# Altium footprint library footprintsGPSrev2.PcbLib: 5 footprints
Each footprint in its own frame and in the unit in brackets; x right, y up, seen from the top. Pads: shape width x height; smd on the part's side, far side on the other; paste and mask are expansions set on the pad; w line width, h text height; cw(c..) or ccw(c..) is an arc to the next point about the centre after c.
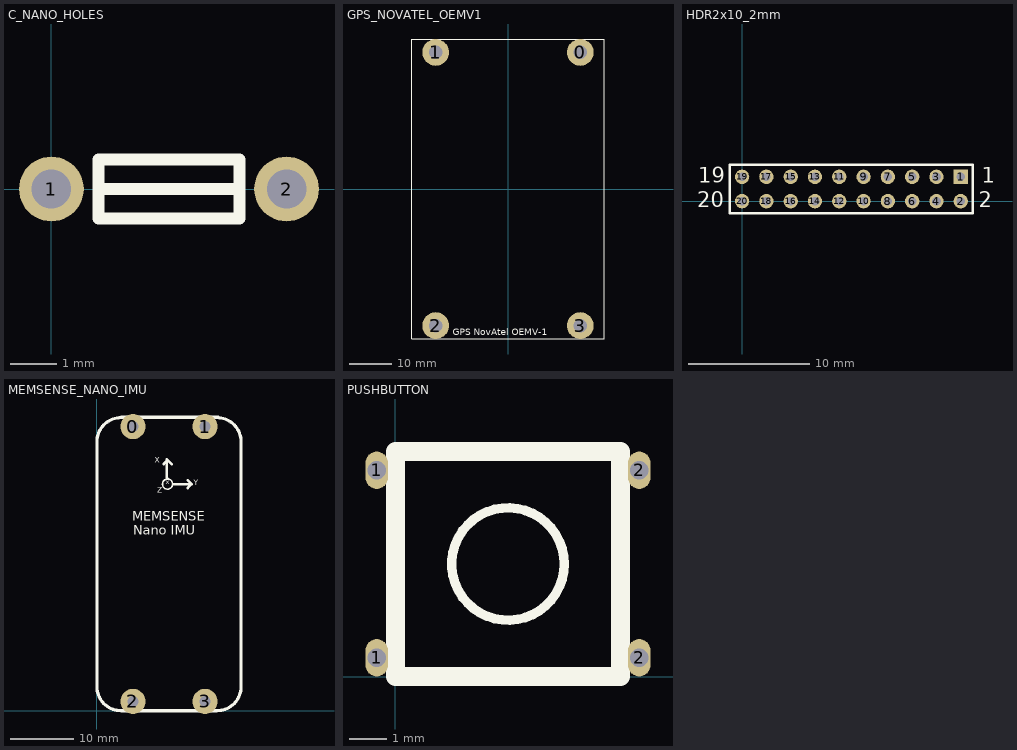
[diagram p0: the footprints below, top view; thin cyan lines are the x and y axes]

## C_NANO_HOLES [mm] "C_NANO com furos maiores"
pads (2):
  round 1.4 hole 0.85: 1(0,0) 2(5.08,0)
Top Overlay:
  lines w0.254: 1.016,0 3.302,0 ; 1.778,0 4.064,0 ; 4.064,0 4.064,0.635 1.016,0.635 1.016,-0.635 4.064,-0.635 4.064,0

## GPS_NOVATEL_OEMV1 [mm]
pads (4):
  round 6.35 hole 3.175: 0(17.145,32.385) 1(-17.145,32.385) 2(-17.145,-32.385) 3(17.145,-32.385)
Top Overlay:
  lines w0.254: -22.86,-35.56 22.86,-35.56 22.86,35.56 -22.86,35.56 -22.86,-35.56
  text "GPS NovAtel OEMV-1" at -13.081,-34.671 h1.52

## HDR2x10_2mm [mm]
pads (20):
  rect 1.18x1.18 hole 0.71: 1(18,2)
  round 1.18 hole 0.71: 2(18,0) 3(16,2) 4(16,0) 5(14,2) 6(14,0) 7(12,2) 8(12,0) 9(10,2) 10(10,0) 11(8,2) 12(8,0) 13(6,2) 14(6,0) 15(4,2) 16(4,0) 17(2,2) 18(2,0) 19(0,2) 20(0,0)
Top Overlay:
  lines w0.2: -1,-1 16.555,-1 19,-1 19,3 17.095,3 -1,3 -1,-1
  text "2" at 19.5,-0.5 h1.27
  text "1" at 19.712,1.5 h1.27
  text "19" at -3.606,1.5 h1.27
  text "20" at -3.712,-0.5 h1.27

## MEMSENSE_NANO_IMU [mm]
pads (4):
  round 4 hole 1.778: 0(5.715,45.06) 1(17.145,45.06) 2(5.715,1.473) 3(17.145,1.473)
Top Overlay:
  circle w0.254: c11.201,35.941 r0.803
  lines w0.381: 10.566,39.116 11.201,39.751 ; 11.201,36.83 11.1,36.932 11.1,39.853 11.836,39.116 ; 12.09,35.941 15.011,35.941 ; 14.376,35.306 15.011,35.941 ; 14.376,36.576 15.011,35.941
  lines w0.508: 3.81,46.482 ccw(c3.81,42.672) 0,42.672 0,3.81 ccw(c3.81,3.81) 3.81,0 19.05,0 ccw(c19.05,3.81) 22.86,3.81 22.86,42.672 ccw(c19.05,42.672) 19.05,46.482 ; 3.861,46.533 19.253,46.533
  text "Nano IMU" at 5.742,27.94 h1.52
  text "MEMSENSE" at 5.613,30.099 h1.52
  text "x" at 10.947,35.636 h1.27
  text "X" at 9.169,38.989 h1.52
  text "Y" at 15.392,35.433 h1.52
  text "Z" at 9.55,34.29 h1.52

## PUSHBUTTON [mm]
pads (4):
  oval 0.6x1 hole 0.5: 1(-0.5,0.5) 1(-0.5,5.5) 2(6.5,0.5) 2(6.5,5.5)
Top Overlay:
  circle w0.254: c3,3 r1.5
  lines w0.5: -0.5,0.5 0,0.5 ; -0.5,5.5 0,5.5 ; 6,0.5 6.5,0.5 ; 6,5.5 6.5,5.5 ; 0,0 6,0 6,6 0,6 0,0